# EAGLE library part MCP4142-104E/P (library cpsmv)
Digital POT
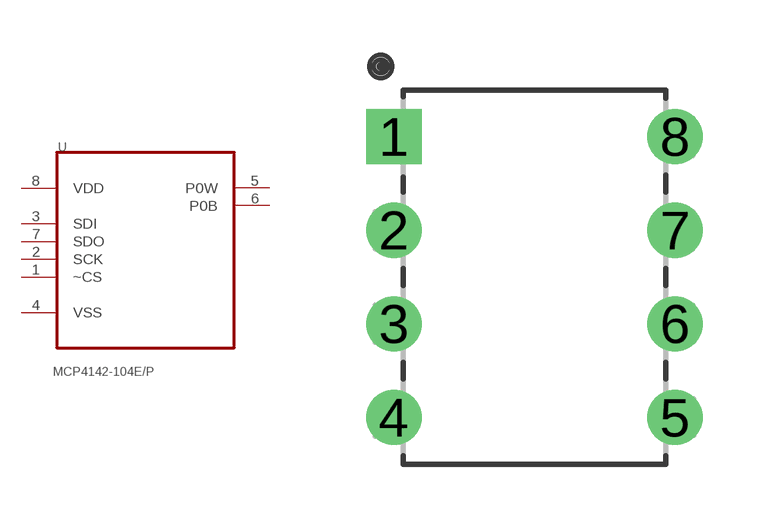
[diagram p11: symbol with the pads of DIP254P762X533-8; footprint DIP254P762X533-8]

Designator prefix U

## MCP4142-104E/P (DATASHEET_LINK: http://ww1.microchip.com/downloads/en/DeviceDoc/22059b.pdf; MANUFACTURER: Microchip; MANUFACTURER_PN: MCP4142-104E/P; PACKAGE: DIP-8; SUPPLIER: Digi-Key; SUPPLIER_PN: MCP4142-104E/P-ND)  [DIP254P762X533-8]
1  ~CS  in
2  SCK  in
3  SDI  in
4  VSS  pwr
5  P0W  pas
6  P0B  pas
7  SDO  out
8  VDD  pwr

## Footprint DIP254P762X533-8 (pad centres in mm)
drill 0.991 square: 1 -7.62,7.62
drill 0.991: 2 -7.62,5.08; 3 -7.62,2.54; 4 -7.62,0; 5 0,0; 6 0,2.54; 7 0,5.08; 8 0,7.62